# Altium footprint library DF201607111.PcbLib: 111 footprints (part 3 of 7)
Each footprint in its own frame and in the unit in brackets; x right, y up, seen from the top. Pads: shape width x height; smd on the part's side, far side on the other; paste and mask are expansions set on the pad; w line width, h text height; cw(c..) or ccw(c..) is an arc to the next point about the centre after c.
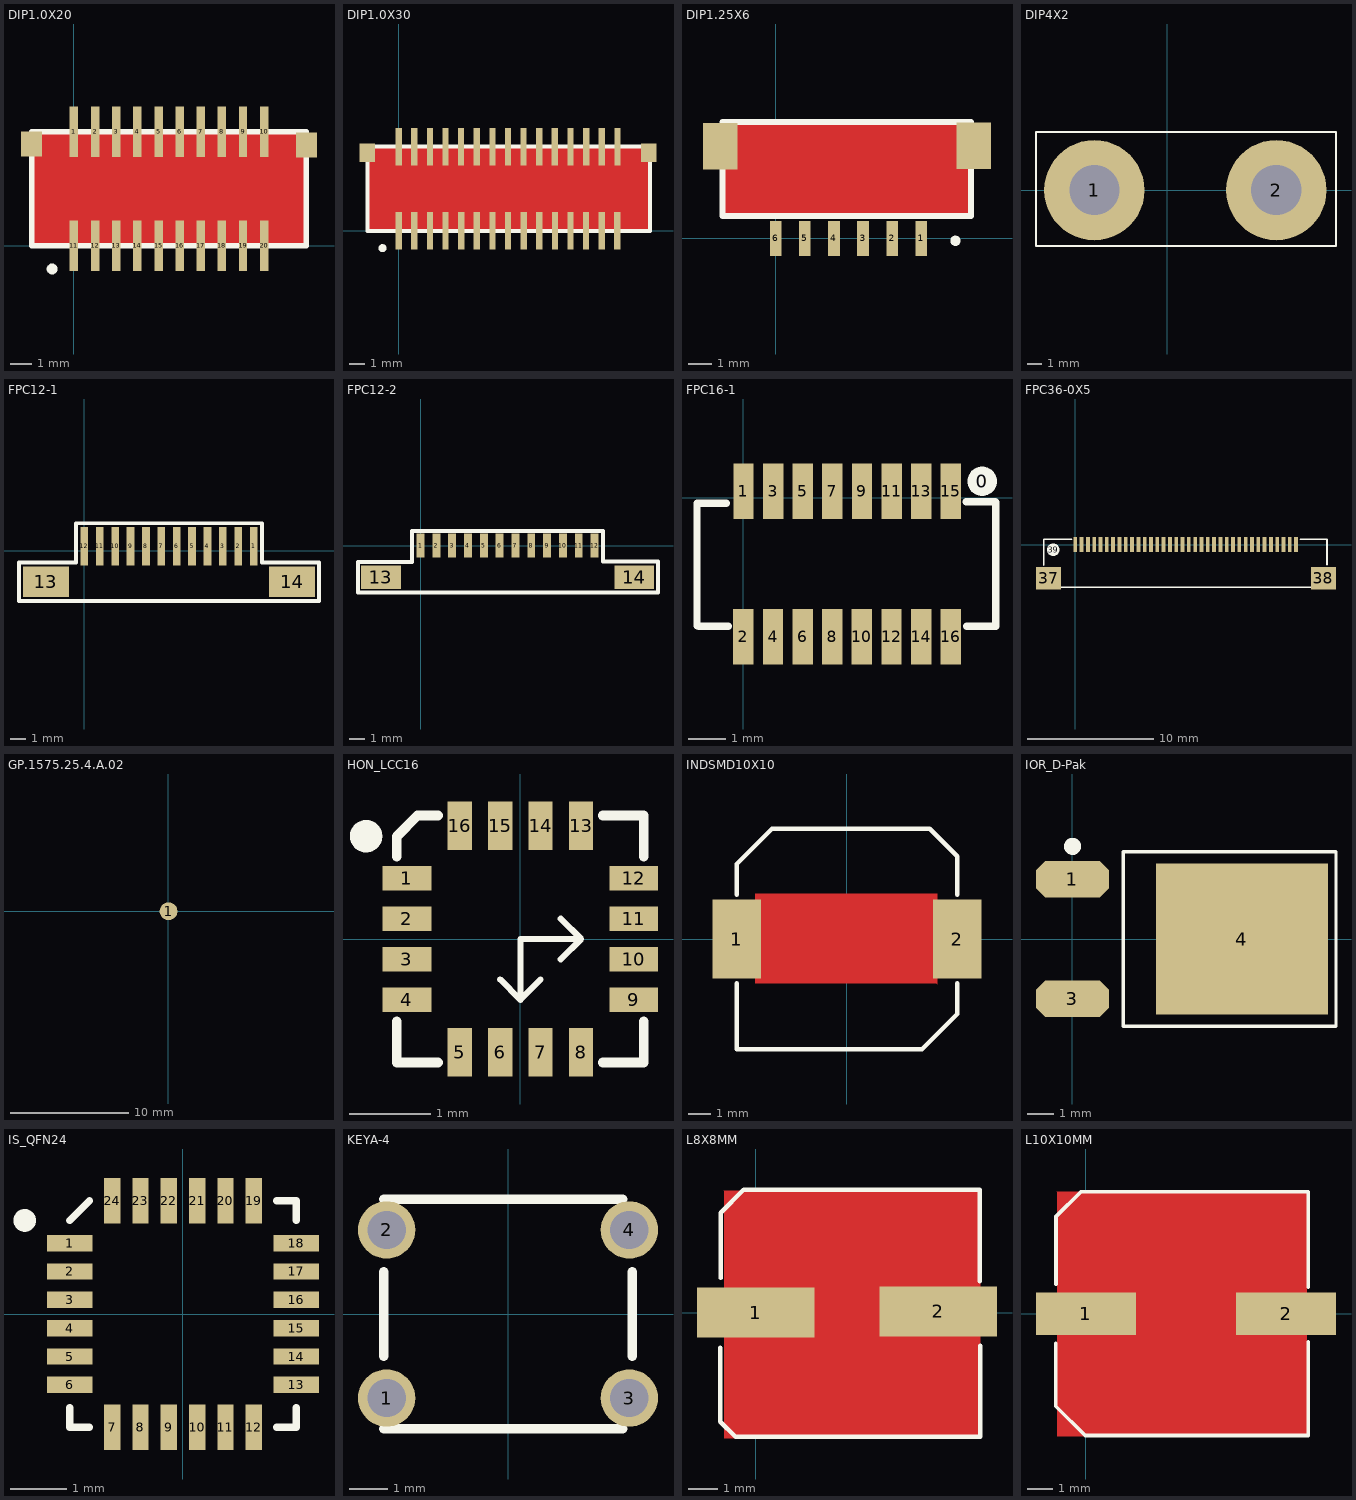
[diagram p2: the footprints below, top view; thin cyan lines are the x and y axes]

## DIP1.0X20 [mm]
pads (22):
  rect 0.4x2.4 smd: 1(0,5.4) 2(1.007,5.4) 3(2.007,5.4) 4(3.007,5.4) 5(4.007,5.4) 6(5.007,5.4) 7(6.007,5.4) 8(7.007,5.4) 9(8.007,5.4) 10(9.007,5.4) 11(0,0) 12(1.007,0) 13(2.007,0) 14(3.007,0) 15(4.007,0) 16(5.007,0) 17(6.007,0) 18(7.007,0) 19(8.007,0) 20(9.007,0)
  rect 1x1.2 smd: ""(-2,4.816) ""(11.005,4.765)
Top Layer:
  pour cut-out: -1.88,5.309 -1.88,0.14 -1.968,0.051 10.884,0.051 10.884,5.283 10.858,5.309
Top Overlay:
  circle w0.254: c-1.035,-1.102 r0.127
  lines w0.254: -2,0 -2,5.4 11,5.4 11,0 -2,0

## DIP1.0X30 [mm]
pads (32):
  rect 0.4x2.4 smd: 1(0,0) 2(1,0) 3(2.007,0) 4(3.007,0) 5(4.007,0) 6(5.007,0) 7(6.007,0) 8(7.007,0) 9(8.007,0) 10(9.007,0) 11(10,0) 12(11,0) 13(12,0) 14(13,0) 15(14,0) 16(14.007,5.4) 17(13.007,5.4) 18(12.007,5.4) 19(11.007,5.4) 20(10,5.4) 21(9,5.4) 22(8,5.4) 23(7,5.4) 24(6,5.4) 25(5,5.4) 26(4,5.4) 27(3,5.4) 28(2,5.4) 29(1,5.4) 30(0,5.4)
  rect 1x1.2 smd: ""(-2,5) ""(16,5)
Top Layer:
  pour cut-out: -1.974,5.3 16.085,5.3 16.085,0.023 16.068,0.006 -1.99,0.006
Top Overlay:
  circle w0.254: c-1.035,-1.102 r0.127
  lines w0.254: -2,0 16.079,0 16.079,5.4 -2,5.4 -2,0

## DIP1.25X6 [mm]
height 0.6
pads (8):
  rect 0.5x1.5 smd: 1(6.25,0) 2(5,0) 3(3.75,0) 4(2.5,0) 5(1.25,0) 6(0,0)
  rect 1.5x2 smd: ""(-2.388,3.962) ""(8.509,3.988)
Top Layer:
  pour cut-out: -2.248,4.991 -2.273,4.966 -2.273,1.003 8.382,1.003 8.28,1.105 8.28,4.966
Top Overlay:
  circle w0.254: c7.722,-0.102 r0.092
  lines w0.254: -2.3,0.96 -2.3,5 8.4,5 8.4,0.96 -2.3,0.96

## DIP4X2 [mm]
pads (2):
  round 7 hole 3.5: 1(-5.08,0) 2(7.62,0)
Top Overlay:
  lines w0.13: -9.152,-3.904 -9.151,4.064 11.785,4.064 11.784,-3.904 -9.152,-3.904

## FPC12-1 [mm]
pads (14):
  rect 0.5x2.5 smd: 1(11,0.3) 2(10,0.3) 3(9,0.3) 4(8,0.3) 5(7,0.3) 6(6,0.3) 7(5,0.3) 8(4,0.3) 9(3,0.3) 10(2,0.3) 11(1,0.3) 12(0,0.3)
  rect 3x2 smd: 13(-2.5,-2) 14(13.5,-2)
Top Overlay:
  lines w0.254: -4.25,-3.25 15.25,-3.25 15.25,-0.75 11.55,-0.75 11.55,1.8 -0.55,1.8 -0.55,-0.75 -4.25,-0.75 -4.25,-3.25

## FPC12-2 [mm]
pads (14):
  rect 0.5x1.5 smd: 1(0,0) 2(1,0) 3(2,0) 4(3,0) 5(4,0) 6(5,0) 7(6,0) 8(7,0) 9(8,0) 10(9,0) 11(10,0) 12(11,0)
  rect 2.5x1.5 smd: 13(-2.5,-2) 14(13.5,-2)
Top Overlay:
  lines w0.254: -3.952,-2.965 -3.952,-1.025 -0.528,-1.025 -0.528,0.922 11.539,0.922 11.539,-1.012 15.01,-1.012 15.01,-2.965 -3.952,-2.965

## FPC16-1 [mm]
pads (17):
  round 0.8 on Top Overlay: 0(6.447,0.446)
  rect 0.55x1.5 smd: 1(0,0.178) 2(-0.001,-3.754) 3(0.8,0.178) 4(0.799,-3.754) 5(1.6,0.178) 6(1.599,-3.754) 7(2.4,0.178) 8(2.399,-3.754) 9(3.2,0.178) 10(3.199,-3.754) 11(4,0.178) 12(3.999,-3.754) 13(4.8,0.178) 14(4.799,-3.754) 15(5.6,0.178) 16(5.599,-3.754)
Top Overlay:
  lines w0.2: -1.255,-3.451 -1.255,-0.151 ; -1.254,-0.153 -0.461,-0.153 ; -1.206,-3.469 -0.413,-3.469 ; 6.012,-0.105 6.804,-0.105 ; 6.027,-3.464 6.82,-3.464 ; 6.808,-3.423 6.808,-0.123

## FPC36-0X5 [mm]
pads (39):
  rect 0.3x1.2 smd: 1(17.5,0) 2(17,0) 3(16.5,0) 4(16,0) 5(15.5,0) 6(15,0) 7(14.5,0) 8(14,0) 9(13.5,0) 10(13,0) 11(12.5,0) 12(12,0) 13(11.5,0) 14(11,0) 15(10.5,0) 16(10,0) 17(9.5,0) 18(9,0) 19(8.5,0) 20(8,0) 21(7.5,0) 22(7,0) 23(6.5,0) 24(6,0) 25(5.5,0) 26(5,0) 27(4.5,0) 28(4,0) 29(3.5,0) 30(3,0) 31(2.5,0) 32(2,0) 33(1.5,0) 34(1,0) 35(0.5,0) 36(0,0)
  rect 2x1.8 smd: 37(-2.112,-2.666) 38(19.66,-2.68)
  round 1 on Top Overlay: 39(-1.748,-0.409)
Top Overlay:
  lines w0.13: -2.485,-1.638 -2.485,0.411 -0.277,0.411 ; -1.539,-3.386 18.983,-3.386 ; 17.83,0.413 19.945,0.413 19.945,-1.605

## GP.1575.25.4.A.02 [mm]
pads (1):
  round 1.5 smd: 1(0.027,-0.006)
Bottom Overlay:
  lines w0.254: -12.573,-14.979 -12.573,10.221 ; -12.5,-14.979 12.7,-14.979 12.7,10.221 ; -12.5,10.294 12.7,10.294 ; -1.27,1.277 -1.27,-1.263 1.27,-1.263 1.27,1.277 ; -1.143,1.277 1.143,1.277

## HON_LCC16 [mm]
height 0.8
pads (16):
  rect 0.6x0.3 smd: 1(-1.4,0.75) 2(-1.4,0.25) 3(-1.4,-0.25) 4(-1.4,-0.75) 9(1.4,-0.75) 10(1.4,-0.25) 11(1.4,0.25) 12(1.4,0.75)
  rect 0.3x0.6 smd: 5(-0.75,-1.4) 6(-0.25,-1.4) 7(0.25,-1.4) 8(0.75,-1.4) 13(0.75,1.4) 14(0.25,1.4) 15(-0.25,1.4) 16(-0.75,1.4)
Top Overlay:
  circle w0.2: c-1.905,1.27 r0.1
  lines w0.076: -0.25,-0.5 0,-0.75 ; 0.25,-0.5 0,-0.75 ; 0.5,-0.25 0.75,0 ; 0.5,0.25 0.75,0 ; 0,-0.75 0,0 0.75,0
  lines w0.12: -1.525,-1.017 -1.525,-1.525 -1.017,-1.525 ; -1.525,1.017 -1.525,1.269 -1.269,1.525 -1.017,1.525 ; 1.017,-1.525 1.525,-1.525 1.525,-1.017 ; 1.017,1.525 1.525,1.525 1.525,1.017

## INDSMD10X10 [mm]
height 1.3
pads (2):
  rect 2.2x3.6 smd: 1(-5,0) 2(5,0)
Top Layer:
  pour cut-out: -4.15,2.05 4.1,2.05 4.1,-2.05 4.05,-2 -4.15,-2
Top Overlay:
  lines w0.2: -5,-2 -5,-5 3.4,-5 5,-3.4 5,-2 ; -5,2 -5,3.4 -3.4,5 3.75,5 5,3.75 5,2

## IOR_D-Pak [mm]
height 2.39
pads (3):
  oct 2.8x1.4 smd: 1(0,2.3) 3(0,-2.3)
  rect 6.6x5.8 smd: 4(6.5,0)
Top Overlay:
  circle w0.4: c0,3.556 r0.127
  lines w0.13: 1.95,-3.35 10.112,-3.35 10.112,3.35 1.95,3.35 1.95,-3.35

## IS_QFN24 [mm]
height 0.8
pads (24):
  rect 0.8x0.29 smd: 1(-2,1.25) 2(-2,0.75) 3(-2,0.25) 4(-2,-0.25) 5(-2,-0.75) 6(-2,-1.25) 13(2,-1.25) 14(2,-0.75) 15(2,-0.25) 16(2,0.25) 17(2,0.75) 18(2,1.25)
  rect 0.29x0.8 smd: 7(-1.25,-2) 8(-0.75,-2) 9(-0.25,-2) 10(0.25,-2) 11(0.75,-2) 12(1.25,-2) 19(1.25,2) 20(0.75,2) 21(0.25,2) 22(-0.25,2) 23(-0.75,2) 24(-1.25,2)
Top Overlay:
  circle w0.2: c-2.794,1.651 r0.1
  lines w0.127: -2,-1.65 -2,-2 -1.65,-2 ; -2,1.65 -1.65,2 ; 1.65,-2 2,-2 2,-1.65 ; 1.65,2 2,2 2,1.65

## KEYA-4 [mm]
pads (4):
  round 1.5 hole 1: 1(-3.175,-2.2) 2(-3.175,2.2) 3(3.175,-2.2) 4(3.175,2.2)
Top Overlay:
  lines w0.254: -3.25,-3 3,-3 ; -3.25,-1.1 -3.25,1.1 ; -3.25,3 3,3 ; 3.25,-1.1 3.25,1.1

## L8X8MM [mm]
pads (2):
  rect 4x1.7 smd: 1(0,0) 2(6.202,0.042)
Top Layer:
  pour cut-out: -1.093,4.161 -1.078,4.145 -1.078,-4.266 7.616,-4.266 7.631,-4.251 7.631,4.145
Top Overlay:
  lines w0.15: -1.207,-1.196 -1.207,-3.702 -0.686,-4.223 7.631,-4.223 7.631,-1.122 ; -1.196,1.18 -1.196,3.401 -0.417,4.18 7.62,4.18 7.62,1.069

## L10X10MM [mm]
pads (2):
  rect 4x1.7 smd: 1(0,0) 2(8,0)
Top Layer:
  pour cut-out: 8.83,4.886 8.83,-4.912 -1.157,-4.912 -1.157,4.854 -1.173,4.87
Top Overlay:
  lines w0.15: -1.207,-1.196 -1.207,-3.702 -0.032,-4.877 8.89,-4.877 8.89,-1.122 ; -1.196,1.18 -1.196,3.884 -0.203,4.877 8.89,4.877 8.89,1.069